# EAGLE library part 06HS (library con-harting-h)
CONNECTOR
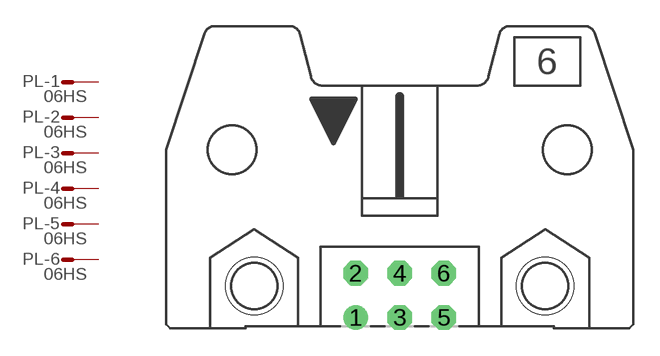
[diagram p13: symbol with the pads of 06H; footprint 06H]

Designator prefix PL; gates -1=M -2=M -3=M -4=M -5=M -6=M

## 06HS (OC_FARNELL: unknown; OC_NEWARK: unknown)  [06H]
1  -1:S  pas
2  -2:S  pas
3  -3:S  pas
4  -4:S  pas
5  -5:S  pas
6  -6:S  pas

## Footprint 06H (pad centres in mm)
CONNECTOR
drill 0.914: 1 -2.54,-1.27
drill 0.914 octagon: 2 -2.54,1.27; 3 0,-1.27; 4 0,1.27; 5 2.54,-1.27; 6 2.54,1.27
hole 3.302 at -8.382,0.533
hole 3.302 at 8.382,0.533